# Altium schematic symbol library sanziqi.SchLib: 56 symbols
Pins are listed as number, name and electrical type; pins without a type are passive.

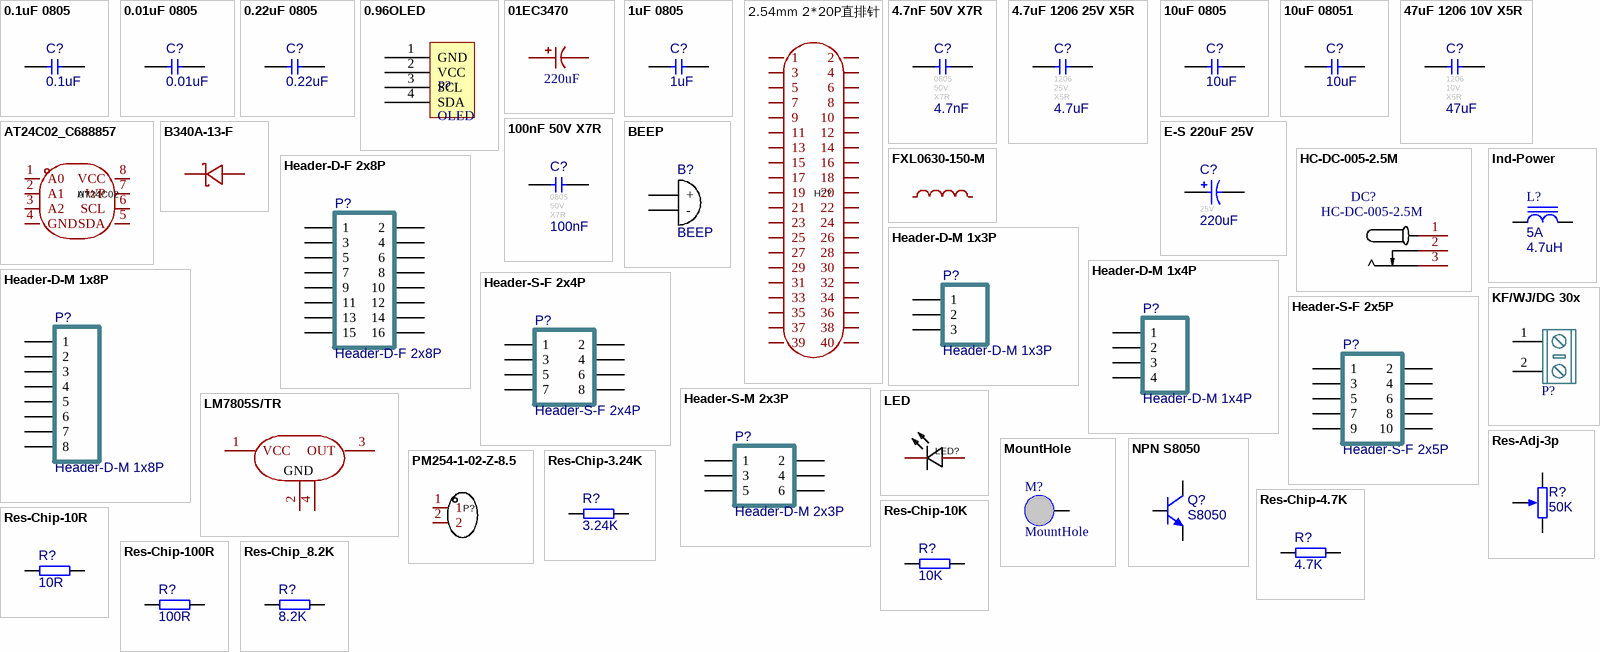
[diagram p0: symbols 0.1uF 0805 to Res-Chip_8.2K]

## 0.1uF 0805
designator C?  value 0.1uF
贴片电容0805; Revision: V1.0
footprint C0805
pins: 1, 2

## 0.01uF 0805
designator C?  value 0.01uF
贴片电容0805; Revision: V1.0
footprint C0805
pins: 1, 2

## 0.22uF 0805
designator C?  value 0.22uF
贴片电容0805; Revision: V1.0
footprint C0805
pins: 1, 2

## 0.96OLED
designator P?, comment OLED
0.96寸OLED屏，GND开头
footprint HDR2.54-M-LI-4P (排母，4脚)
pins: 1 GND, 2 VCC, 3 SCL, 4 SDA

## 01EC3470
designator C?, comment 220uF  (value not drawn)
Manufacturer: KNSCHA(科尼盛); Symbol: 01EC3470; Add into BOM: yes; Tolerance: ±20%; Rated Voltage: 50V; Ripple Current: 350mA@120kHz; φD: 8mm; L: 12mm; Lifetime @ Temp: 2000hrs@105℃; Device: 01EC3470; LCSC Part Name: 220uF ±20% 50V; Supplier Part: C2836445; Manufacturer Part: 01EC3470; Supplier Footprint: 插件,D8xL12mm; JLCPCB Part Class: Extended Part; Datasheet: https://atta.szlcsc.com/upload/public/pdf/source/20210528/C2836445_4EB3DEC3C45633977FB5495C9B2E1697.pdf; Supplier: LCSC; Convert to PCB: yes; Value: 220uF; Equivalent Series Resistance(ESR): -; Lead Spacing: 3.5mm; Operating Temperature: -40℃~+105℃
footprint CAP-TH_BD8.0-P3.50-D0.6-FD
3D model CAP-TH_D8.0-H8.0-P3.50
pins: 1, 2

## 1uF 0805
designator C?  value 1uF
贴片电容0805; Revision: V1.0
footprint C0805
pins: 1, 2

## 2.54mm 2*20P直排针
designator H??  (value not drawn)
Manufacturer: BOOMELE(博穆精密); Symbol: Header-Male-2.54_2x20; Add into BOM: yes; Pin Structure: 2x20P; Circluar Pins/Square Pins: 方针; Current Rating (Max): 3A; Device: 2.54mm 2*20P直排针; LCSC Part Name: 间距:2.54mm 2x20P 直插 方针; Supplier Part: C50980; Manufacturer Part: 2.54mm 2*20P直排针; Supplier Footprint: 插件,P=2.54mm; JLCPCB Part Class: Extended Part; Datasheet: https://atta.szlcsc.com/upload/public/pdf/source/20151109/1457707572823.pdf; Supplier: LCSC; Convert to PCB: yes; Pitch: 2.54mm; Row Spacing: 2.54mm; Mounting Type: 直插; Number of Rows: 双排; Number of Pins: 40P; Voltage Rating (Max): -; Length of Mating Pin: 6mm; Insulation Height: -; Length of End Connection Pin: 3mm; Contact Material: 黄铜; Contact Plating: -; Operating Temperature Range: -40℃~+105℃; Color: 黑色
footprint HDR-TH_40P-P2.54-V-M-R2-C20-S2.54
3D model HDR-TH_40P-P2.54-M-LI-2X20P
pins: 1, 2, 3, 4, 5, 6, 7, 8, 9, 10, 11, 12, 13, 14, 15, 16, 17, 18, 19, 20, 21, 22, 23, 24, 25, 26, 27, 28, 29, 30, 31, 32, 33, 34, 35, 36, 37, 38, 39, 40

## 4.7nF 50V X7R
designator C?  value 4.7nF  FootPrint: 0805  Voltage: 50V  Type: X7R  (hidden comment: 4.7nF 50V X7R)
贴片瓷片电容; MLCC;; Revision: V1.0
footprint C0805
pins: 1, 2

## 4.7uF 1206 25V X5R
designator C?, comment value 4.7uF  FootPrint: 1206  Voltage: 25V  Type: X5R  (hidden comment: 4.7uF 25V X5R)
贴片瓷片电容; MLCC; 1206(3216);; Revision: V1.0
footprint CAPC3216[1206]S
pins: 1, 2

## 10uF 0805
designator C?  value 10uF
贴片电容0805; Revision: V1.0
footprint C0805
pins: 1, 2

## 10uF 08051
designator C?  value 10uF
贴片电容0805; Revision: V1.0
footprint C0805
pins: 1, 2

## 47uF 1206 10V X5R
designator C?, comment value 47uF  FootPrint: 1206  Voltage: 10V  Type: X5R  (hidden comment: 47uF 10V X5R)
贴片瓷片电容; MLCC; 1206(3216);; Revision: V1.0
footprint CAPC3216[1206]S (1206贴片电容 有丝印 2脚 3.20x1.60mm IPC中密度)
pins: 1, 2

## 100nF 50V X7R
designator C?  value 100nF  FootPrint: 0805  Voltage: 50V  Type: X7R  (hidden comment: 100nF 50V X7R)
贴片瓷片电容; MLCC;; Revision: V1.0
footprint C0805
pins: 1, 2

## AT24C02_C688857
designator U??, comment AT24C02
Manufacturer: IDCHIP(英锐芯); Device: AT24C02_C688857; Add into BOM: yes; Symbol: AT24C02; LCSC Part Name: 24C02 2Kbit电可擦除PROM; Supplier Part: C688857; Manufacturer Part: AT24C02; Supplier Footprint: SOP-8; JLCPCB Part Class: Extended Part; Datasheet: https://atta.szlcsc.com/upload/public/pdf/source/20200619/C688857_168265888F77B455D6D4136881F4BB15.pdf; Supplier: LCSC; Convert to PCB: yes
footprint SOP-8_L5.0-W4.0-P1.27-LS6.0-BL
3D model SOP-8_L5.0-W4.0-H1.8-LS6.2-P1.27
pins: 1 A0, 2 A1, 3 A2, 4 GND, 5 SDA, 6 SCL, 7 WP, 8 VCC

## B340A-13-F
designator D??  (value not drawn)
Manufacturer: DIODES(美台); Add into BOM: yes; Forward Voltage (Vf@If): 500mV@3A; Reverse Voltage (Vr): 40V; Rectified Current: 3A; Reverse Leakage Current (Ir): 500uA@40V; Symbol: B340A-13-F; Device: B340A-13-F; LCSC Part Name: 电压:40V 电流:3A; Supplier Part: C85098; Manufacturer Part: B340A-13-F; Supplier Footprint: SMA(DO-214AC); JLCPCB Part Class: Extended Part; Datasheet: https://atta.szlcsc.com/upload/public/pdf/source/20171023/C134454_15087453575121052549.pdf; Supplier: LCSC; Convert to PCB: yes
footprint SMA_L4.4-W2.6-LS5.0-RD
3D model SMA_L4.4-W2.6-LS5.0-RD
pins: 1 K, 2 A

## BEEP
designator B?
蜂鸣器
footprint BEEP 9x5.5mm
footprint BEEP 9x5.5mm
pins: 1 +, 2 -

## E-S 220uF 25V 
designator C?, comment value 220uF  Voltage: 25V  (hidden comment: 220uF 25V 铝电解)
直插电解电容 220uF 25v; Revision: V1.0; Type: 铝电解
footprint CAP-TH_BD8.0-P3.50-D0.6-FD
pins: 1, 2

## FXL0630-150-M
designator L??, comment 15uH  (value not drawn)
Manufacturer: cjiang(长江微电); Symbol: FXL0630-150-M; Add into BOM: yes; Tolerance: ±20%; Rated Current: 3A; Saturation Current (Isat): 4.5A; DC Resistance (DCR): 115mΩ; Type: 一体成型电感; Device: FXL0630-150-M; LCSC Part Name: 15uH ±20% 4.5A; Supplier Part: C177243; Manufacturer Part: FXL0630-150-M; Supplier Footprint: SMD,6.6x7mm; JLCPCB Part Class: Extended Part; Datasheet: https://atta.szlcsc.com/upload/public/pdf/source/20240426/3189EA8206330E2108542F9E34E540E7.pdf; Supplier: LCSC; Convert to PCB: yes; Value: 15uH
footprint IND-SMD_L7.0-W6.6_FXL0630
3D model IND-SMD_L7.0-W6.6-H2.8_FXL0630
pins: 1, 2

## HC-DC-005-2.5M
designator DC?
Manufacturer: HCTL(华灿天禄); 3DModel: DC-IN-TH_KH-DC-005-2.5; Add into BOM: yes; Symbol: HC-DC-005-2.5M; Device: HC-DC-005-2.5M; link: https://atta.szlcsc.com/upload/public/pdf/source/20210716/C2847170_7F0110A0BEDEE81C68B76DF87AC8DA16.pdf; Supplier: LCSC; Supplier Part: C3010535; Manufacturer Part: HC-DC-005-2.5M; JLCPCB Part Class: ExtendedPart; Convert to PCB: yes; Origin Footprint: DC-IN-TH_KH-DC-005-2.5; Name: HC-DC-005-2.5M
footprint DC-005 (DC母座5.5mm)
pins: 1, 2, 3

## Header-D-F 2x8P
designator P?
2x8pin, 直插, 双排座; Revision: V1.0; Value: Header-D-F 2x8P
footprint 2.54mm 2*8p  直插排母
pins: 1, 2, 3, 4, 5, 6, 7, 8, 9, 10, 11, 12, 13, 14, 15, 16

## Header-D-M 1x3P
designator P?
1x3pin, 直插, 排针; Revision: V1.0; Value: Header-D-M 1x3P
footprint HDR1X3-M (1x3pin, 2.54mm间距, 直插, 直排针)
pins: 1, 2, 3

## Header-D-M 1x4P
designator P?
1x4pin, 直插, 排针; Revision: V1.0; Value: Header-D-M 1x4P
footprint HDR1X4-M (1x4pin, 2.54mm间距, 直插, 直排针)
pins: 1, 2, 3, 4

## Header-D-M 1x8P
designator P?
1x8pin, 直插, 排针; Revision: V1.0; Value: Header-D-M 1x8P
footprint HDR1X8-M (1x7pin, 2.54mm间距, 直插, 直排针)
pins: 1, 2, 3, 4, 5, 6, 7, 8

## Header-S-F 2x4P
designator P?
2x4pin, 贴片, 双排座; Revision: V1.0; Value: Header-S-F 2x4P
footprint HDR2.54-LI-2x4P (双排排针，4x2脚)
pins: 1, 2, 3, 4, 5, 6, 7, 8

## Header-S-F 2x5P
designator P?
2x5pin, 贴片, 双排座; Revision: V1.0; Value: Header-S-F 2x5P
footprint HDR-TH_10P-P2.00-V-M-R2-C5-S2.00
footprint 2.54mm 2*5p
pins: 1, 2, 3, 4, 5, 6, 7, 8, 9, 10

## Header-S-M 2x3P
designator P?, comment Header-D-M 2x3P
2x3pin, 贴片, 双排针; Revision: V1.0; Value: Header-D-M 2x3P
footprint 2.54mm 2*3p 直插
pins: 1, 2, 3, 4, 5, 6

## Ind-Power
designator L?, comment value 4.7uH  Imax: 5A  (hidden comment: 4.7uH 5A)
功率电感; DCR: .5m; Published: 8-Jun-2000; Revision: July-2002: Re-released for DXP Platform.; Publisher: Altium Limited; Price(RMB): 0.000
footprint 0630 TPC 7*7*3 (12mmx12mmx6.5mm 一体成型功率电感)
pins: 1, 2

## KF/WJ/DG 30x
designator P?, comment KF/WJ/DG 30x connecter  (value not drawn)
接线端子 2Pin
footprint KF/WJ/DG 301-2p-5.0mm (2P 5.08mm间距 接线端子)
pins: 1, 2

## LED
designator LED?, comment NCD0805R1  (value not drawn)
Manufacturer: 国星光电; Symbol: FC-2012HRK-620D; Add into BOM: yes; Emitted Color: 红色; Forward Voltage (VF): 1.6V~2.6V; Power Dissipation: 65mW; Forward Current: 20mA; Dominant Wavelength: 615nm~630nm; Diode Configuration: 独立二极管; Lens Color: 无色透明; Luminous Intensity: 67mcd~195mcd; Viewing Angle: 130°; Device: NCD0805R1; Supplier: LCSC; Manufacturer Part: NCD0805R1; Supplier Part: C84256; JLCPCB Part Class: Basic Part; LCSC Part Name: NCD0805R1; Supplier Footprint: 0805; Datasheet: https://atta.szlcsc.com/upload/public/pdf/source/20200820/C84256_F0A75A43B3EAD75808600A0514C76B99.pdf; Convert to PCB: yes; Lamp Holder Type: -; Peak Wavelength: -; Color Temperature: -; Mounting Sytle: -; Operating Temperature: -30℃~+85℃
footprint LED0805-R-RD
pins: 1 +, 2 -

## LM7805S/TR
designator U??  (value not drawn)
Manufacturer: HGSEMI(华冠); Add into BOM: yes; Symbol: LM7805S/TR; Device: LM7805S/TR; LCSC Part Name: 固定电压稳压器; Supplier Part: C507146; Manufacturer Part: LM7805S/TR; Supplier Footprint: TO-263-3; JLCPCB Part Class: Extended Part; Datasheet: https://atta.szlcsc.com/upload/public/pdf/source/20211101/54C90BF39C07253AC431AF453924CB99.pdf; Supplier: LCSC; Convert to PCB: yes; Output Type: -
footprint TO-263-3_L8.6-W10.2-P2.54-LS14.4-BR
3D model TO-263-3_L10.2-W8.7-H4.5-LS14.4-P2.54
pins: 1 VCC, 2 GND, 3 OUT, 4 GND

## MountHole
designator M?  (no BOM)
固定孔
footprint M3-MountHole
pins: 1

## NPN S8050
designator Q?, comment S8050
Discrete NPN Bipolar Transistor; Published: 8-Jun-2000; Revision: July-2002: Re-released for DXP Platform.; Publisher: Altium Limited; Price(RMB): 0.000; PartNumber: S8050
simulation model SS8050
footprint SOT-23 (SOT23, 3-Leads, Body 2.90x2.40mm, Pitch 0.95mm, IPC Medium Density)
pins: 1 B, 2 E, 3 C

## PM254-1-02-Z-8.5
designator P?  (value not drawn)
Manufacturer: HCTL(华灿天禄); Add into BOM: yes; Number of Holes: 2P; Pitch: 2.54mm; Holes Structure: 1x2P; Circular Hole / Square Hole: 方孔; Current Rating (Max): 3A; Holes Direction: 顶部; Name: PM254-1-02-Z-8.5; Symbol: PM254-1-02-Z-8.5; Device: PM254-1-02-Z-8.5; LCSC Part Name: 2.54mm 1x2P; Supplier Part: C2897365; Manufacturer Part: PM254-1-02-Z-8.5; Supplier Footprint: 插件,P=2.54mm; JLCPCB Part Class: Extended Part; Datasheet: https://atta.szlcsc.com/upload/public/pdf/source/20230609/534BE42964C679BDE98E061007C4ABD6.pdf; Supplier: LCSC; Convert to PCB: yes; Number of Rows: 单排; Row Spacing: -; Mounting Type: 直插; Voltage Rating (Max): -; Insulation Height: 8.5mm; Operating Temperature Range: -40℃~+105℃
footprint HDR-TH_2P-P2.54-V-F
3D model HDR-TH_2P-P2.54-F-LI-1X2P
pins: 1, 2

## Res-Adj-3p
designator R?, comment 50K
可调电阻; Value: 50K
footprint RESPOT3296W (3296W 精密可调电阻 顶调)
pins: 1 TOP, 2 BOT, ADJ

## Res-Chip-3.24K
designator R?, comment value 3.24K  (hidden comment: 3.24K ±1%)
贴片电阻; Power: 1/8W; Revision: V1.0; Tolerance: ±1%
footprint R0805 (1/8W)
pins: 1, 2

## Res-Chip-4.7K
designator R?, comment value 4.7K  (hidden comment: 4.7K ±1%)
贴片电阻; Power: 1/8W; Revision: V1.0; Tolerance: ±1%
footprint R0805
pins: 1, 2

## Res-Chip-10K
designator R?, comment value 10K  (hidden comment: 10K ±1%)
贴片电阻; Power: 1/8W; Revision: V1.0; Tolerance: ±1%
footprint R0805
pins: 1, 2

## Res-Chip-10R
designator R?, comment value 10R  (hidden comment: 10R ±1%)
贴片电阻; Power: 1/8W; Revision: V1.0; Tolerance: ±1%
footprint R0805
pins: 1, 2

## Res-Chip-100R
designator R?, comment value 100R  (hidden comment: 100R ±1%)
贴片电阻; Power: 1/8W; Revision: V1.0; Tolerance: ±1%
footprint R0805
pins: 1, 2

## Res-Chip_8.2K
designator R?, comment value 8.2K  (hidden comment: 8.2K ±1%)
贴片电阻; Power: 1/8W; Revision: V1.0; Tolerance: ±1%
footprint R0805
pins: 1, 2

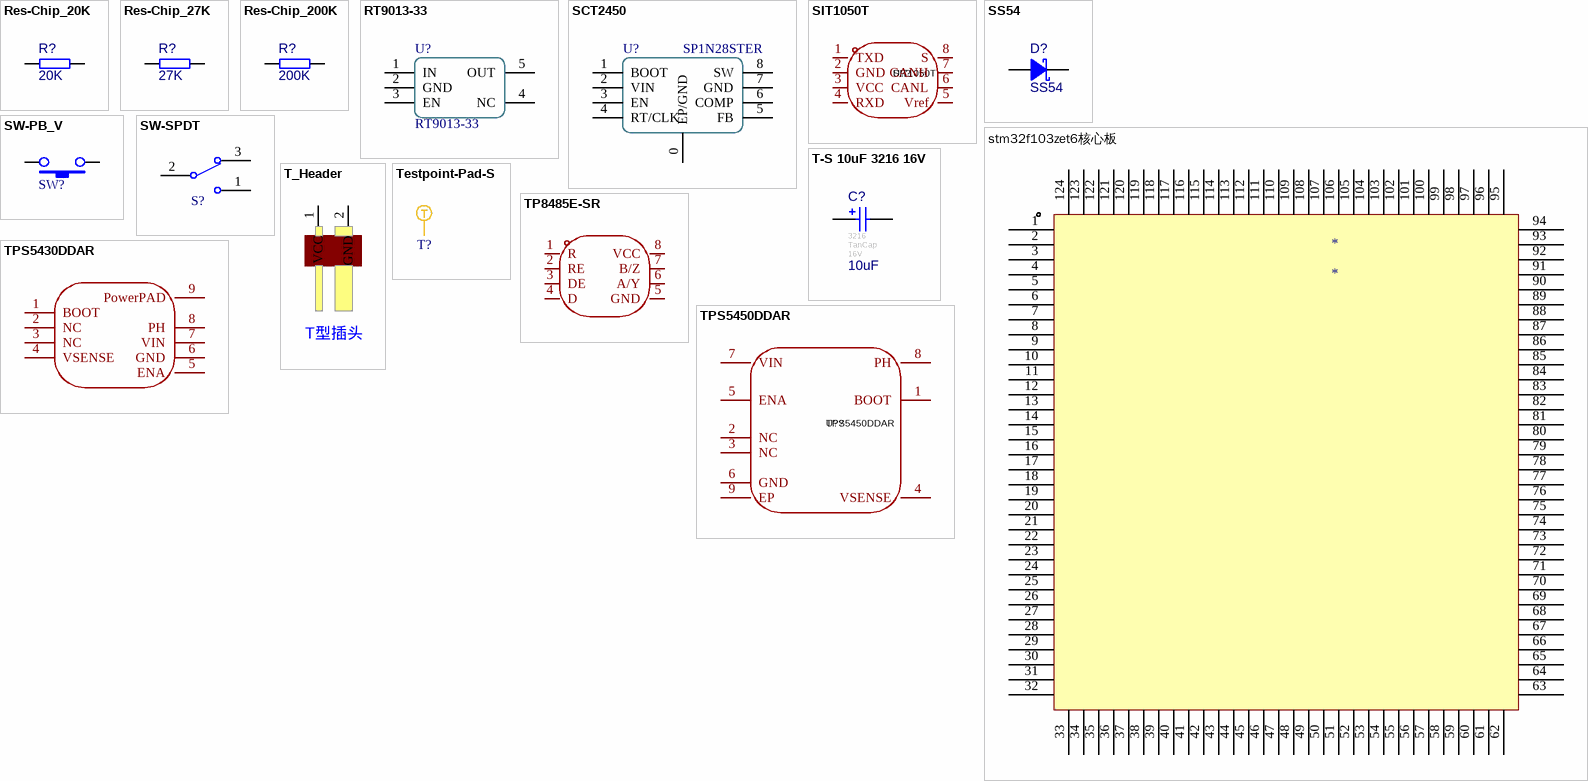
[diagram p1: symbols Res-Chip_20K to TPS5450DDAR]

## Res-Chip_20K
designator R?, comment value 20K  (hidden comment: 20K ±1%)
贴片电阻; Power: 1/8W; Revision: V1.0; Tolerance: ±1%
footprint R0805
pins: 1, 2

## Res-Chip_27K
designator R?, comment value 27K  (hidden comment: 27K ±1%)
贴片电阻; Power: 1/8W; Revision: V1.0; Tolerance: ±1%
footprint R0805
pins: 1, 2

## Res-Chip_200K
designator R?, comment value 200K  (hidden comment: 200K ±1%)
贴片电阻; Power: 1/8W; Revision: V1.0; Tolerance: ±1%
footprint R0805
pins: 1, 2

## RT9013-33
designator U?
3.3V 500mA SOT-23-5 LDO
footprint SOT-23-5
pins: 1 IN, 2 GND, 3 EN, 4 NC, 5 OUT

## SCT2450
designator U?, comment SP1N28STER
3.8V-36V Vin, 5A, High Efficiency Synchronous Step-down DCDC Converter / with Programmable Frequency
footprint SOP-8E
pins: 0 EP/GND, 1 BOOT, 2 VIN, 3 EN, 4 RT/CLK, 5 FB, 6 COMP, 7 GND, 8 SW

## SIT1050T
designator U??
Manufacturer: SIT(芯力特); Add into BOM: yes; Data Rate: 1Mbps; Supply Voltage: 4.5V~5.5V; Supply Current: 70mA; Symbol: SIT1050T; Device: SIT1050T; LCSC Part Name: SIT1050 5V供电，±40V接口耐压，1Mbps高速CAN总线收发器; Supplier Part: C313021; Manufacturer Part: SIT1050T; Supplier Footprint: SO-8; JLCPCB Part Class: Extended Part; Datasheet: https://atta.szlcsc.com/upload/public/pdf/source/20190522/C313021_F295A63AE262020D1D58DBA99C3629E3.pdf; Supplier: LCSC; Convert to PCB: yes; Type: CAN收发器; Operating Temperature: -40℃~+125℃
footprint SO-8_L4.9-W3.9-P1.27-LS5.9-BL
3D model SO-8_L4.9-W3.9-H1.5-LS5.9-P1.27
pins: 1 TXD, 2 GND, 3 VCC, 4 RXD, 5 Vref, 6 CANL, 7 CANH, 8 S

## SS54
designator D?
SS54 肖特基二极管; Revision: V1.0; Value: SS54
footprint SMA-L[DO-214AC] (SMA 二极管 贴片 IPC高密度)
pins: A, K

## stm32f103zet6核心板
designator *
footprint stm32f103zet6核心板
pins: 1, 2, 3, 4, 5, 6, 7, 8, 9, 10, 11, 12, 13, 14, 15, 16, 17, 18, 19, 20, 21, 22, 23, 24, 25, 26, 27, 28, 29, 30, 31, 32, 33, 34, 35, 36, 37, 38, 39, 40, 41, 42, 43, 44, 45, 46, 47, 48, 49, 50, 51, 52, 53, 54, 55, 56, 57, 58, 59, 60, 61, 62, 63, 64, 65, 66, 67, 68, 69, 70, 71, 72, 73, 74, 75, 76, 77, 78, 79, 80, 81, 82, 83, 84, 85, 86, 87, 88, 89, 90, 91, 92, 93, 94, 95, 96, 97, 98, 99, 100, 101, 102, 103, 104, 105, 106, 107, 108, 109, 110, 111, 112, 113, 114, 115, 116, 117, 118, 119, 120, 121, 122, 123, 124

## SW-PB_V
designator SW?  (value not drawn)
SWITCH
footprint TSW SMD-3*6*2.5 (3*6*2.5mm)
pins: 1, 2

## SW-SPDT
designator S?  (value not drawn)
单刀双掷开关 3脚船型、钮子、拨动开关 SPDT Subminiature Toggle Switch; Published: 24-Mar-1999; Publisher: Altium Limited; Price(RMB): 0.000
footprint SS12D10
pins: 1, 2, 3

## T-S 10uF 3216 16V
designator C?  value 10uF  FootPrint: 3216  Type: TanCap  Voltage: 16V  (hidden comment: T-S 10uF 3216 16V)
贴片钽电容 10uF 3216 16V; Revision: July-2002: Re-released for DXP Platform.
footprint CAP-T-S 3216
pins: 1, 2

## T_Header
designator DCIN?, comment T型插头
footprint Wired T-Header ThroughHole
pins: 1 VCC, 2 GND

## Testpoint-Pad-S
designator T?, comment Testpoint-Pad  (value not drawn)  (no BOM)
测试点，就是个焊盘
footprint testpoint-pad-1mm
pins: 1 T

## TP8485E-SR
designator U??  (value not drawn)
Manufacturer: 3PEAK(思瑞浦); Add into BOM: yes; Types: 收发器; Number of Driver: 1; Supply Voltage: 3V~5.5V; Data Rate: 250Kbps; Node Number: 256; ESD Protect: ±18kV; Symbol: TP8485E-SR; Device: TP8485E-SR; LCSC Part Name: ±18K ESD保护，全故障安全RS-485收发器; Supplier Part: C94206; Manufacturer Part: TP8485E-SR; Supplier Footprint: SOIC-8; JLCPCB Part Class: Extended Part; Datasheet: https://atta.szlcsc.com/upload/public/pdf/source/20170120/1484891310884.pdf; Supplier: LCSC; Convert to PCB: yes; Number of receiver: 1; Operating Temperature: -40℃~+125℃
footprint SOIC-8_L5.0-W4.0-P1.27-LS6.0-BL
3D model SOIC-8_L4.9-W3.9-H1.7-LS6.0-P1.27
pins: 1 R, 2 RE, 3 DE, 4 D, 5 GND, 6 A/Y, 7 B/Z, 8 VCC

## TPS5430DDAR
designator U??  (value not drawn)
Manufacturer: TI(德州仪器); Add into BOM: yes; Function: 降压型; Output Type: 可调; Input Voltage: 5.5V~36V; Output Voltage: 1.221V~32.04V; Output Current: 3A; Switching Frequency: 500kHz; Synchronous Rectification: 否; Number of Outputs: 1; Topology: 降压式; Switch tube (built-in/external): 内置; Symbol: TPS5430DDAR; Device: TPS5430DDAR; LCSC Part Name: 宽输入范围、3A输出电流的降压转换器; Supplier Part: C9864; Manufacturer Part: TPS5430DDAR; Supplier Footprint: SOIC-8-EP; JLCPCB Part Class: Basic Part; Datasheet: https://www.ti.com/cn/lit/gpn/tps5430; Supplier: LCSC; Convert to PCB: yes; Operating Temperature: -40℃~+125℃@(TJ)
footprint ESOP-8_L4.9-W3.9-P1.27-LS6.0-TL-EP
3D model ESOP-8_L4.9-W3.9-P1.27-LS6.0-TL-EP
pins: 1 BOOT, 2 NC, 3 NC, 4 VSENSE, 5 ENA, 6 GND, 7 VIN, 8 PH, 9 PowerPAD

## TPS5450DDAR
designator U??
Manufacturer: TI(德州仪器); Add into BOM: yes; Function: 降压型; Output Type: 可调; Input Voltage: 5.5V~36V; Output Voltage: 1.221V~31.32V; Output Current: 5A; Switching Frequency: 500kHz; Synchronous Rectification: 否; Number of Outputs: 1; Topology: 降压式; Switch tube (built-in/external): 内置; Symbol: TPS5450DDAR; Device: TPS5450DDAR; LCSC Part Name: 5A宽输入范围降压转换器; Supplier Part: C114425; Manufacturer Part: TPS5450DDAR; Supplier Footprint: SOP-8-EP-150mil; JLCPCB Part Class: Extended Part; Datasheet: https://www.ti.com/cn/lit/gpn/tps5450; Supplier: LCSC; Convert to PCB: yes; Operating Temperature: -40℃~+125℃@(TJ)
footprint SOP-8_L4.9-W3.9-P1.27-LS6.0-BL-EP
3D model SOP-8_L4.9-W3.9-H1.7-LS6.0-P1.30
pins: 1 BOOT, 2 NC, 3 NC, 4 VSENSE, 5 ENA, 6 GND, 7 VIN, 8 PH, 9 EP